# EAGLE library part UX60SC-MB-5S8 (library UX60SC-MB-5S8)
Conn Mini USB 2.0 Type B RCP 5 POS 0.8mm Solder RA SMD 5 Terminal 1 Port Embossed T/R
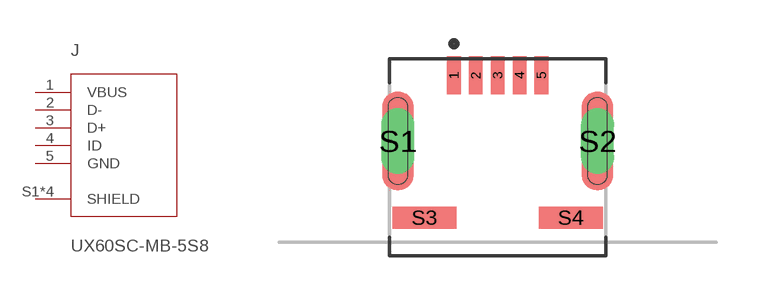
[diagram p0: symbol with the pads of HIROSE_UX60SC-MB-5S8; footprint HIROSE_UX60SC-MB-5S8]

Designator prefix J

## UX60SC-MB-5S8 (Availability: Unavailable; Description: Conn Mini USB 2.0 Type B RCP 5 POS 0.8mm Solder RA SMD 5 Terminal 1 Port Embossed T/R; MF: Hirose; MP: UX60SC-MB-5S8; Package: None; Price: None)  [HIROSE_UX60SC-MB-5S8]
1  VBUS  pwr
2  D-
3  D+
4  ID
5  GND  pwr
S1  SHIELD  pwr
S2  SHIELD  pwr
S3  SHIELD  pwr
S4  SHIELD  pwr

## Footprint HIROSE_UX60SC-MB-5S8 (pad centres in mm)
smd 0.5 x 1.4: 1 -1.6,6.1; 2 -0.8,6.1; 3 0,6.1; 4 0.8,6.1; 5 1.6,6.1
drill 0.7 pad 1.1 long: S1 -3.65,3.7; S2 3.65,3.7
smd 2.35 x 0.8: S3 -2.675,0.9; S4 2.675,0.9